# Altium schematic symbol library MIC5504-3.3YM5_TR.SchLib: 1 symbol
Pins are listed as number, name and electrical type; pins without a type are passive.

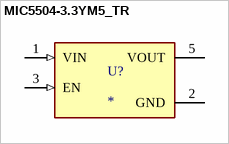
[diagram p0: symbol MIC5504-3.3YM5_TR]

## MIC5504-3.3YM5_TR
designator U?
Linear Voltage Regulator IC 1 Output 300mA SOT-23-5; MF: Microchip; MP: MIC5504-3.3YM5 TR; Availability: Unavailable; Check_prices: https://www.snapeda.com/parts/MIC5504-3.3YM5%20TR/Microchip/view-part/423262/?ref=eda; SnapEDA_Link: https://www.snapeda.com/parts/MIC5504-3.3YM5%20TR/Microchip/view-part/423262/?ref=snap; Value: *; Price: None; Package: SOT-23 Microchip
footprint SOT95P280X145-5N
pins: 1 VIN (in), 2 GND (power), 3 EN (in), 5 VOUT (power)